# Altium footprint library LITEON_LTA-1000Y.PcbLib: 1 footprints
Each footprint in its own frame and in the unit in brackets; x right, y up, seen from the top. Pads: shape width x height; smd on the part's side, far side on the other; paste and mask are expansions set on the pad; w line width, h text height; cw(c..) or ccw(c..) is an arc to the next point about the centre after c.
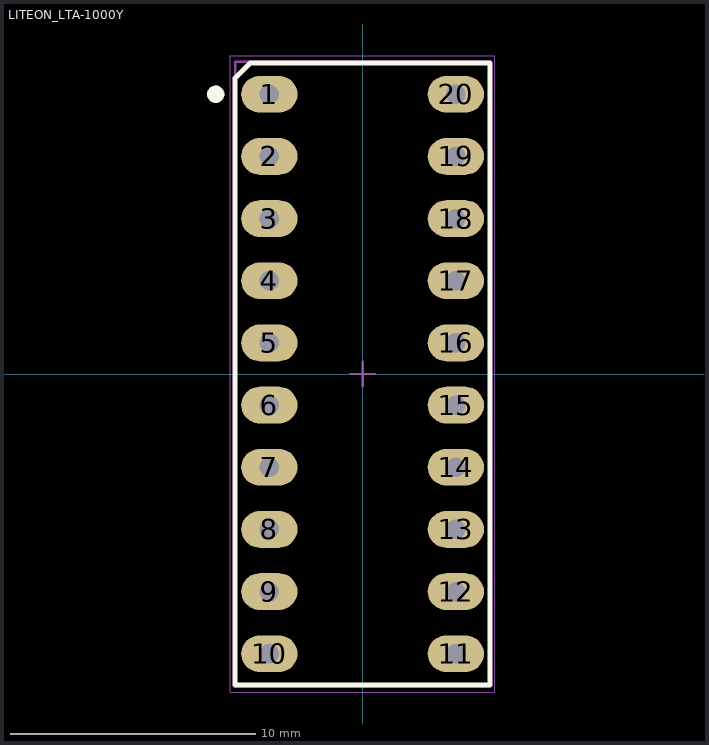
[diagram p0: the footprint, top view; thin cyan lines are the x and y axes]

## LITEON_LTA-1000Y [mm] "LITEON_LTA-1000Y"
height 8.25
pads (20):
  oval 2.3x1.5 hole 0.8 unplated mask+0.05: 1(-3.81,11.43) 2(-3.81,8.89) 3(-3.81,6.35) 4(-3.81,3.81) 5(-3.81,1.27) 6(-3.81,-1.27) 7(-3.81,-3.81) 8(-3.81,-6.35) 9(-3.81,-8.89) 10(-3.81,-11.43) 11(3.81,-11.43) 12(3.81,-8.89) 13(3.81,-6.35) 14(3.81,-3.81) 15(3.81,-1.27) 16(3.81,1.27) 17(3.81,3.81) 18(3.81,6.35) 19(3.81,8.89) 20(3.81,11.43)
Top Overlay:
  circle w0.5: c-6,11.43 r0.1
  lines w0.2: -5.205,-12.7 5.205,-12.7 5.205,12.7 -4.6,12.7 -5.205,12.095 -5.205,-12.7
Mechanical 13:
  circle w0.5: c-6,11.43 r0.1
  lines w0.1: -5.205,-12.76 -5.205,12.76 ; -5.205,-12.76 5.205,-12.76 ; -5.205,-12.76 5.205,-12.76 ; -5.205,-12.76 -5.205,12.76 ; -5.205,12.76 5.205,12.76 ; -5.205,12.76 5.205,12.76 ; 5.205,-12.76 5.205,12.76 ; 5.205,-12.76 5.205,12.76
Mechanical 15:
  lines w0.05: -5.4,-13 5.4,-13 5.4,13 -5.4,13 -5.4,-13
  lines w0.1: -0.5,0 0.5,0 ; 0,-0.5 0,0.5
3D body "LITEON_LTA-1000Y.step": height 6.8, standoff -7, extent -5.08,-12.7 5.08,12.7